# EAGLE library part TEXAS_INSTRUMENTS-DRAM_SOLUTION-TPS51116_PWP_20 (library Module_Regulators)
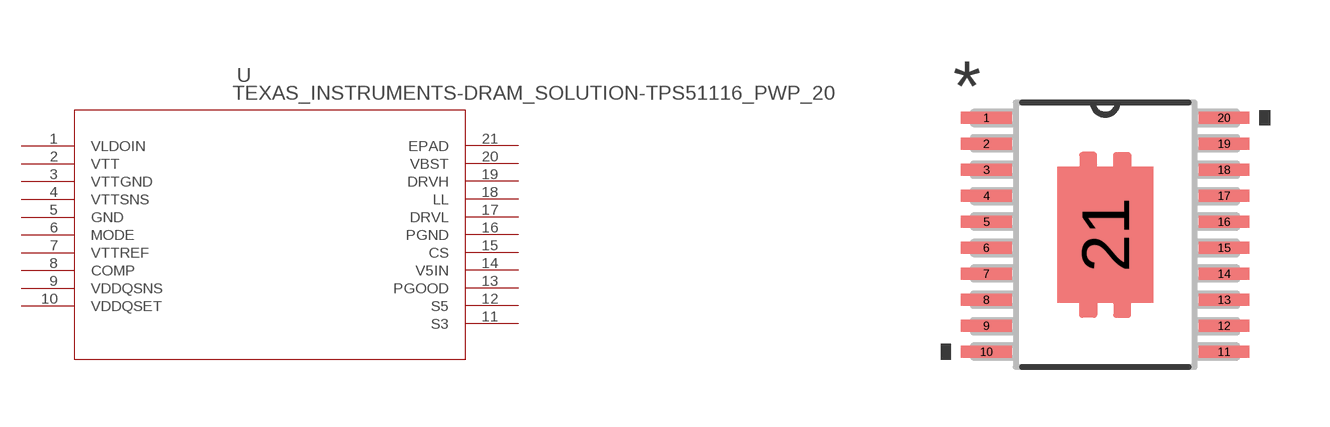
[diagram p24: symbol with the pads of TEXAS_INSTRUMENTS-DRAM_SOLUTION-TPS51116_PWP_20; footprint TEXAS_INSTRUMENTS-DRAM_SOLUTION-TPS51116_PWP_20]

Designator prefix U

## TEXAS_INSTRUMENTS-DRAM_SOLUTION-TPS51116_PWP_20 (DATASHEETURL: httpwww.ti.comlitgpnTPS51116; FAMILY_NAME: MULTIPLEOUTPUT SWITCHING CONTROLLER; GENERIC_PART_NUMBER: TPS51116; INDUSTRY_STD_PKG_TYPE: HTSSOP; MANUFACTURER: Texas Instruments; MANUFACTURER_PART_NUMBER: tps51116_pwp_20; PACKAGE_DESIGNATOR: PWP; PIN_COUNT: 20; VENDOR: Texas Instruments)  [TEXAS_INSTRUMENTS-DRAM_SOLUTION-TPS51116_PWP_20]
1  VLDOIN  in
2  VTT  out
3  VTTGND  pwr
4  VTTSNS  in
5  GND  pwr
6  MODE  in
7  VTTREF  out
8  COMP
9  VDDQSNS
10  VDDQSET  in
11  S3  in
12  S5  in
13  PGOOD  out
14  V5IN  in
15  CS
16  PGND  pwr
17  DRVL  out
18  LL
19  DRVH  out
20  VBST
21  EPAD  pas

## Footprint TEXAS_INSTRUMENTS-DRAM_SOLUTION-TPS51116_PWP_20 (pad centres in mm)
smd 1.27 x 0.305: 1 -2.972,2.925; 2 -2.972,2.275; 3 -2.972,1.625; 4 -2.972,0.975; 5 -2.972,0.325; 6 -2.972,-0.325; 7 -2.972,-0.975; 8 -2.972,-1.625; 9 -2.972,-2.275; 10 -2.972,-2.925; 11 2.972,-2.925; 12 2.972,-2.275; 13 2.972,-1.625; 14 2.972,-0.975; 15 2.972,-0.325; 16 2.972,0.325; 17 2.972,0.975; 18 2.972,1.625; 19 2.972,2.275; 20 2.972,2.925
smd 2.4 x 3.4: 21 0,0